# Altium schematic symbol library 四路运放.SchLib: 8 symbols
Pins are listed as number, name and electrical type; pins without a type are passive.

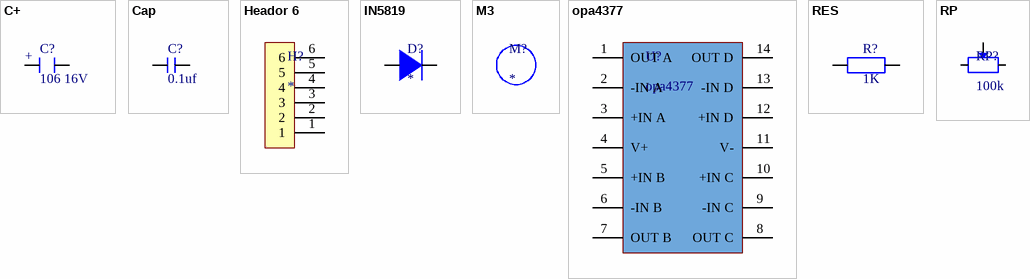
[diagram p0: symbols C+ to RP]

## C+
designator C?, comment 106 16V
pins: 1, 2
text: +

## Cap
designator C?, comment 0.1uf
pins: 1, 2

## Heador 6
designator H?
排针
pins: 1, 2, 3, 4, 5, 6

## IN5819
designator D?
pins: 1, 2

## M3
designator M?

## opa4377
designator U?
pins: 1 OUT A, 2 -IN A, 3 +IN A, 4 V+, 5 +IN B, 6 -IN B, 7 OUT B, 8 OUT C, 9  -IN C, 10 +IN C, 11 V-, 12 +IN D, 13 -IN D, 14 OUT D

## RES
designator R?, comment 1K
pins: 1, 2

## RP
designator RP?, comment 100k
电位器
pins: 1, 2, 3